# EAGLE library part EL2142 (library opamps)
EL2142: Differential line receiver (Elantec) ±5V, ±50mA, 20µA bias 40mV offset, 150MHz UGF, 36nV/rt(Hz) noise
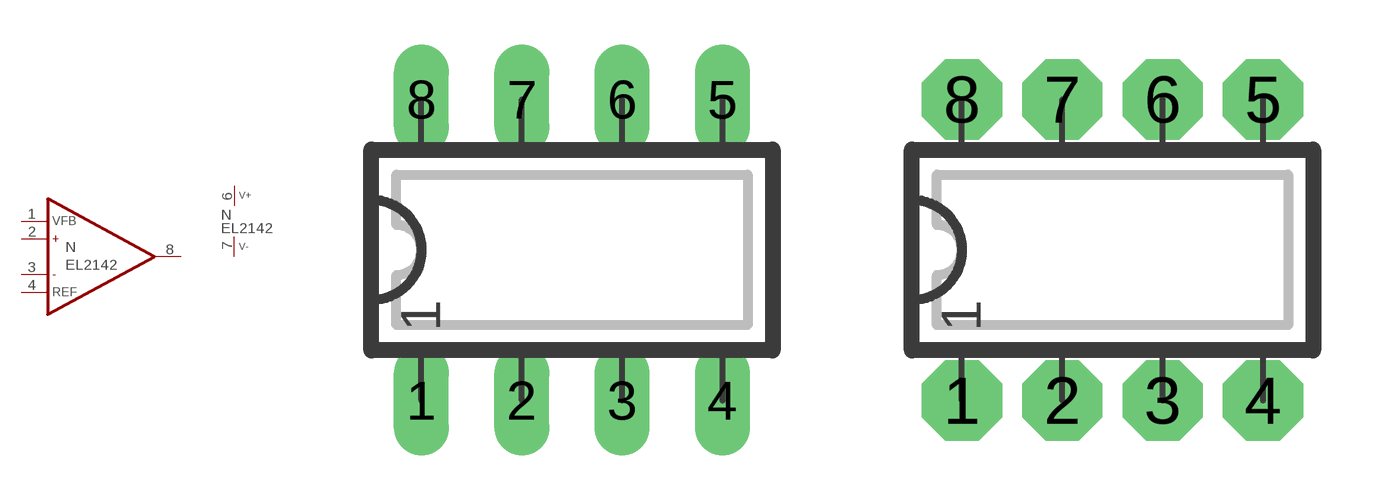
[diagram p223: symbol with the pads of DIP08L; footprints DIP08L, DIP08N]

Designator prefix N; gates A=EL2142 P=V+-

## EL2142  [DIP08L]
1  A:VFB
2  A:OP+  in
3  A:OP-  in
4  A:REF
6  P:V+  pwr
7  P:V-  pwr
8  A:OPO  out

## EL2142L  [DIP08L]
Pads as for DIP08L

## EL2142N  [DIP08N]
Pads as for DIP08L

## EL2142R  [DIP08R]
Pads as for DIP08L

## Footprint DIP08L (pad centres in mm)
DIP-8, long pads Standard IC package, 8 pins
drill 0.813 pad 1.397 long: 1 -3.81,-3.81; 2 -1.27,-3.81; 3 1.27,-3.81; 4 3.81,-3.81; 5 3.81,3.81; 6 1.27,3.81; 7 -1.27,3.81; 8 -3.81,3.81

## Footprint DIP08N (pad centres in mm)
DIP-8 Standard IC package, 8 pins
drill 0.813 pad 2.032 octagon: 1 -3.81,-3.81; 2 -1.27,-3.81; 3 1.27,-3.81; 4 3.81,-3.81; 5 3.81,3.81; 6 1.27,3.81; 7 -1.27,3.81; 8 -3.81,3.81

## Footprint DIP08R (pad centres in mm)
DIP-8, reduced pads Standard IC package, 8 pins
drill 0.813 pad 1.397 square: 1 -3.81,-3.81; 2 -1.27,-3.81; 3 1.27,-3.81; 4 3.81,-3.81; 5 3.81,3.81; 6 1.27,3.81; 7 -1.27,3.81; 8 -3.81,3.81